# Altium footprint library МЦТР.00010572.00.0011.PcbLib: 28 footprints (part 1 of 2)
Each footprint in its own frame and in the unit in brackets; x right, y up, seen from the top. Pads: shape width x height; smd on the part's side, far side on the other; paste and mask are expansions set on the pad; w line width, h text height; cw(c..) or ccw(c..) is an arc to the next point about the centre after c.
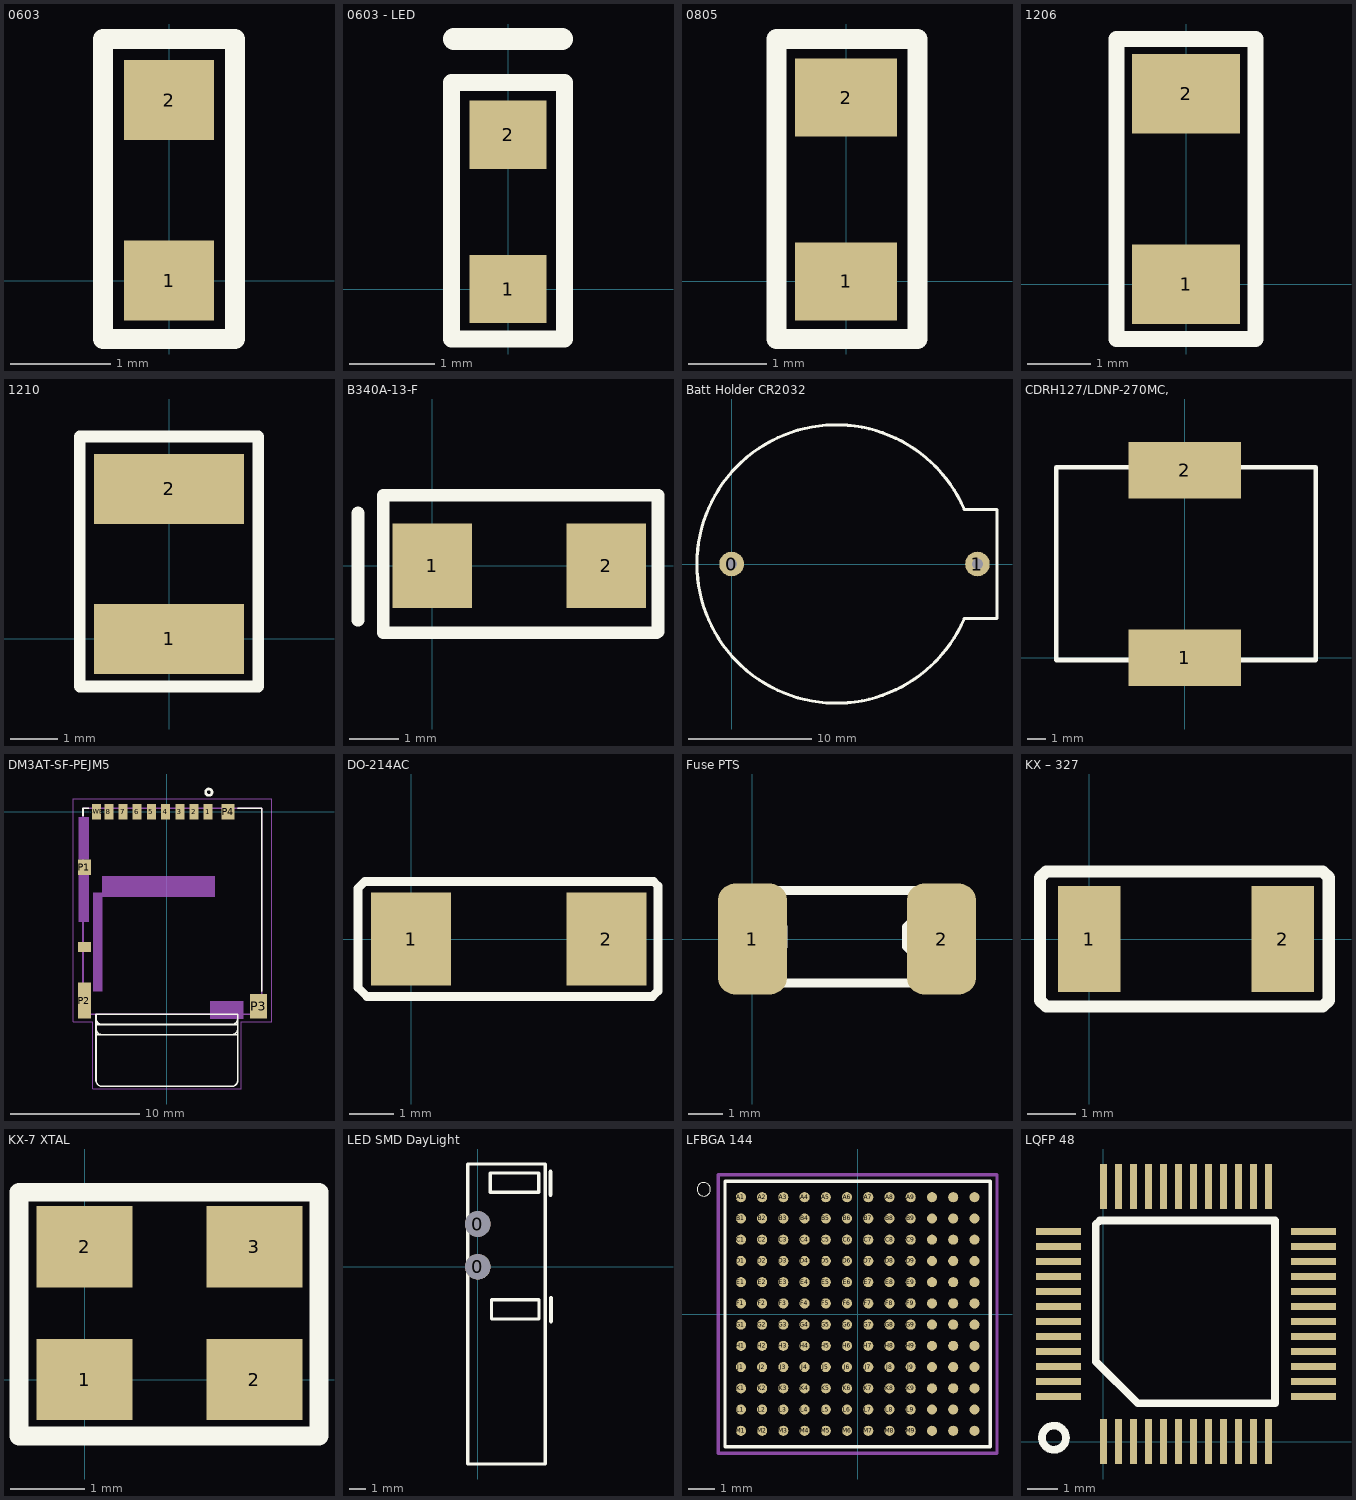
[diagram p0: the footprints below, top view; thin cyan lines are the x and y axes]

## 0603 [mm]
height 1
pads (2):
  rect 0.9x0.8 smd mask+0.102: 1(0,0) 2(0,1.803)
Top Overlay:
  lines w0.2: -0.66,-0.584 -0.66,2.413 0.66,2.413 0.66,-0.584 -0.66,-0.584
3D body "RT0603FRE0710KL.STEP": height 0.55, standoff 0, extent -0.4,0.089 0.4,1.689

## 0603 - LED [mm]
height 1
pads (2):
  rect 0.9x0.8 smd mask+0.102: 1(0,0) 2(0,1.803)
Top Overlay:
  lines w0.2: -0.66,-0.584 0.66,-0.584 0.66,2.413 -0.66,2.413 -0.66,-0.584
  lines w0.254: -0.635,2.921 0.635,2.921
3D body "598-8060-102F.STEP": height 0.7, standoff 0, extent -0.4,0.089 0.4,1.689

## 0805 [mm]
height 1
pads (2):
  rect 1.3x1 smd: 1(0,0) 2(0,2.35)
Top Overlay:
  lines w0.254: -0.889,-0.737 -0.889,3.099 0.914,3.099 0.914,-0.737 -0.889,-0.737
3D body "BLM21PG220SN1D.STEP": height 1.05, standoff 0, extent -0.625,0.143 0.625,2.143

## 1206 [mm]
height 2
pads (2):
  rect 1.7x1.25 smd: 1(0,0) 2(0,3)
Top Overlay:
  lines w0.254: -1.092,-0.864 1.092,-0.864 1.092,3.861 -1.092,3.861 -1.092,-0.864
3D body "GRM31CR61C226ME15L.STEP": height 1.8, standoff 0, extent -0.673,-0.076 0.927,3.124

## 1210 [mm]
height 2
pads (2):
  rect 3.2x1.5 smd: 1(0,0) 2(0,3.2)
Top Overlay:
  lines w0.254: -1.905,-1.016 1.905,-1.016 1.905,4.318 -1.905,4.318 -1.905,-1.016
3D body "0ZCH0050FF2G.STEP": height 1.2, standoff 0, extent -1.288,-0.083 1.287,3.132

## B340A-13-F [mm]
height 2
pads (2):
  rect 1.6x1.7 smd: 1(0,0) 2(3.5,0)
Top Overlay:
  lines w0.254: -1.499,-1.092 -1.499,1.067 ; 4.521,-1.346 -0.991,-1.346 -0.991,1.422 4.547,1.422 4.547,-1.327
3D body "B360A-13-F.STEP": height 2.62, standoff 0, extent -0.792,-1.28 4.348,1.28

## Batt Holder CR2032 [mm]
height 5
pads (2):
  round 2 hole 0.9: 0(0,0) 1(20,0)
Top Overlay:
  lines w0.254: 18.923,-4.445 cw(c8.509,0) 18.923,4.445 21.59,4.445 21.59,-4.445 18.923,-4.445
3D body "CH224-2032LF.step": height 8.7, standoff -3.7, extent -2.033,-10.921 22.267,11.175

## CDRH127/LDNP-270MC, [mm]
pads (2):
  rect 6x3 smd: 1(0,0) 2(0,10)
Top Overlay:
  lines w0.254: -6.858,-0.127 -6.858,10.16 6.985,10.16 6.985,-0.127 -6.858,-0.127
3D body "CDRH127LDNP220MC.STEP": height 8, standoff 0, extent -5.873,-0.793 6.127,11.207

## DM3AT-SF-PEJM5 [mm]
height 2
pads (14):
  rect 0.7x1.2 smd: 1(3.2,0) 2(2.1,0) 3(1,0) 4(-0.1,0) 5(-1.2,0) 6(-2.3,0) 7(-3.4,0) 8(-4.5,0) SWB(-5.45,0)
  rect 1x1.2 smd: P1(-6.4,-4.3) P4(4.75,0)
  rect 1x2.8 smd: P2(-6.4,-14.65)
  rect 1.3x1.9 smd: P3(7.1,-15.1)
  rect 1x0.8 smd: SWA(-6.4,-10.5)
Top Overlay:
  circle w0.2: c3.25,1.5 r0.25
  lines w0.127: -6.5,-0.3 -6.5,0.25 -6.05,0.25 ; 5.5,0.25 7.35,0.25 7.35,-13.9 ; -5.5,-17.3 -5.5,-20.8 ccw(c-5,-20.8) -5,-21.3 5,-21.3 ccw(c5,-20.8) 5.5,-20.8 5.5,-17.3 ; -5.5,-17.3 -5.5,-16.8 ; -5.5,-17.3 -5,-17.3 ; -5.5,-16.8 ccw(c-5,-16.8) -5,-17.3 ; -5.5,-16.8 -5.5,-16.5 ; -5.5,-16.5 -5.5,-16 ; -5.5,-16.5 -5,-16.5 ; -5.5,-16 ccw(c-5,-16) -5,-16.5 ; -5.5,-16 -5.5,-15.7 5.5,-15.7 5.5,-16 ; -5,-17.3 5,-17.3 ; -5,-16.5 5,-16.5 ; 5,-17.3 ccw(c5,-16.8) 5.5,-16.8 ; 5,-17.3 5.5,-17.3 ; 5,-16.5 ccw(c5,-16) 5.5,-16 ; 5,-16.5 5.5,-16.5 ; 5.5,-17.3 5.5,-16.8 ; 5.5,-16.8 5.5,-16.5 ; 5.5,-16.5 5.5,-16
Mechanical 1:
  region: 3.355,-14.7 5.9,-14.7 5.9,-16.072 3.355,-16.072
  region: -5.008,-5 3.7,-5 3.7,-6.611 -5.008,-6.611
  region: -5.715,-6.3 -5,-6.3 -5,-13.937 -5.715,-13.937
  region: -6.817,-4.9 -6.05,-4.9 -6.05,-8.521 -6.817,-8.521
  region: -6.825,-0.45 -6.05,-0.45 -6.05,-3.714 -6.825,-3.714
  lines w0.127: -6.5,-15.7 -6.5,0.25 7.35,0.25 7.35,-15.7 -6.5,-15.7
  text "PCB Edge" at -4.76,-15.783 h1.88
Mechanical 4:
  lines w0.05: -7.25,-16.3 -7.25,1 8.125,1 8.125,-16.3 5.75,-16.3 5.75,-21.5 -5.75,-21.5 -5.75,-16.3 -7.25,-16.3
3D body "DM3A.STEP": height 1.68, standoff 0, extent -6.484,-15.949 7.366,0.201

## DO-214AC [mm]
pads (2):
  rect 1.8x2.1 smd: 1(0,0) 2(4.4,0)
Top Overlay:
  lines w0.2: -1.194,-1.092 -0.991,-1.295 5.436,-1.295 5.563,-1.168 5.563,1.194 5.461,1.295 -1.041,1.295 -1.194,1.143 -1.194,-1.092
3D body "SMAJ5.0CA.STEP": height 2.4, standoff 0, extent -0.446,-1.303 4.764,1.303

## Fuse PTS [mm]
pads (2):
  rrect50% 2x3.2 smd: 1(0,0) 2(5.45,0)
Top Overlay:
  lines w0.254: 0.508,-1.27 0.508,-0.603 0.889,-0.222 0.889,0.349 0.508,0.73 0.508,1.397 4.826,1.397 4.826,0.73 4.445,0.349 4.445,-0.222 4.826,-0.603 4.826,-1.27 0.508,-1.27
3D body "MF-MSMF030-2.STEP": height 0.85, standoff 0, extent 0.392,-1.62 4.942,1.62

## KX – 327 [mm]
height 2
pads (2):
  rect 1.3x2.2 smd: 1(0,0) 2(4,0)
Top Overlay:
  lines w0.254: -1.016,-1.27 -1.016,1.27 -0.889,1.397 4.826,1.397 4.953,1.27 4.953,-1.27 4.826,-1.397 4.572,-1.397 -0.889,-1.397 -1.016,-1.27
3D body "RV-3032-C7-32.768KHZ-2.5PPM-TA-QC.STEP": height 0.8, standoff 0, extent 0.432,-0.75 3.632,0.75

## KX-7 XTAL [mm]
height 1
pads (4):
  rect 1.3x1.1 smd: 1(0,0) 2(0,1.8) 2(2.3,0) 3(2.3,1.8)
Top Overlay:
  lines w0.254: -0.889,-0.762 3.175,-0.762 3.175,2.54 -0.889,2.54 -0.889,-0.762
3D body "KX-7_3DFile(STEP).stp": height 0.8, standoff 0, extent -0.457,-0.361 2.743,2.139

## LED SMD DayLight [mm]
pads (2):
  round 1.52 hole 1.52 paste+0 mask+0: 0(0,0) 0(0,2.54)
Top Overlay:
  lines w0.2: -0.6,1.905 -0.6,6.1 4,6.1 4,-11.7 -0.6,-11.7 -0.6,2.54 ; 0.737,4.42 0.737,5.563 3.607,5.563 3.607,4.42 0.737,4.42 ; 0.813,-3.099 0.813,-1.956 3.632,-1.956 3.632,-3.099 0.813,-3.099
  lines w0.254: 4.318,4.267 4.318,5.639 ; 4.343,-3.226 4.343,-1.854

## LFBGA 144 [mm]
height 1
pads (144):
  round 0.38 smd mask-0.05: A1(-4.4,4.4) A2(-3.6,4.4) A3(-2.8,4.4) A4(-2,4.4) A5(-1.2,4.4) A6(-0.4,4.4) A7(0.4,4.4) A8(1.2,4.4) A9(2,4.4) A10(2.8,4.4) A11(3.6,4.4) A12(4.4,4.4) B1(-4.4,3.6) B2(-3.6,3.6) B3(-2.8,3.6) B4(-2,3.6) B5(-1.2,3.6) B6(-0.4,3.6) B7(0.4,3.6) B8(1.2,3.6) B9(2,3.6) B10(2.8,3.6) B11(3.6,3.6) B12(4.4,3.6) C1(-4.4,2.8) C2(-3.6,2.8) C3(-2.8,2.8) C4(-2,2.8) C5(-1.2,2.8) C6(-0.4,2.8) C7(0.4,2.8) C8(1.2,2.8) C9(2,2.8) C10(2.8,2.8) C11(3.6,2.8) C12(4.4,2.8) D1(-4.4,2) D2(-3.6,2) D3(-2.8,2) D4(-2,2) D5(-1.2,2) D6(-0.4,2) D7(0.4,2) D8(1.2,2) D9(2,2) D10(2.8,2) D11(3.6,2) D12(4.4,2) E1(-4.4,1.2) E2(-3.6,1.2) E3(-2.8,1.2) E4(-2,1.2) E5(-1.2,1.2) E6(-0.4,1.2) E7(0.4,1.2) E8(1.2,1.2) E9(2,1.2) E10(2.8,1.2) E11(3.6,1.2) E12(4.4,1.2) F1(-4.4,0.4) F2(-3.6,0.4) F3(-2.8,0.4) F4(-2,0.4) F5(-1.2,0.4) F6(-0.4,0.4) F7(0.4,0.4) F8(1.2,0.4) F9(2,0.4) F10(2.8,0.4) F11(3.6,0.4) F12(4.4,0.4) G1(-4.4,-0.4) G2(-3.6,-0.4) G3(-2.8,-0.4) G4(-2,-0.4) G5(-1.2,-0.4) G6(-0.4,-0.4) G7(0.4,-0.4) G8(1.2,-0.4) G9(2,-0.4) G10(2.8,-0.4) G11(3.6,-0.4) G12(4.4,-0.4) H1(-4.4,-1.2) H2(-3.6,-1.2) H3(-2.8,-1.2) H4(-2,-1.2) H5(-1.2,-1.2) H6(-0.4,-1.2) H7(0.4,-1.2) H8(1.2,-1.2) H9(2,-1.2) H10(2.8,-1.2) H11(3.6,-1.2) H12(4.4,-1.2) J1(-4.4,-2) J2(-3.6,-2) J3(-2.8,-2) J4(-2,-2) J5(-1.2,-2) J6(-0.4,-2) J7(0.4,-2) J8(1.2,-2) J9(2,-2) J10(2.8,-2) J11(3.6,-2) J12(4.4,-2) K1(-4.4,-2.8) K2(-3.6,-2.8) K3(-2.8,-2.8) K4(-2,-2.8) K5(-1.2,-2.8) K6(-0.4,-2.8) K7(0.4,-2.8) K8(1.2,-2.8) K9(2,-2.8) K10(2.8,-2.8) K11(3.6,-2.8) K12(4.4,-2.8) L1(-4.4,-3.6) L2(-3.6,-3.6) L3(-2.8,-3.6) L4(-2,-3.6) L5(-1.2,-3.6) L6(-0.4,-3.6) L7(0.4,-3.6) L8(1.2,-3.6) L9(2,-3.6) L10(2.8,-3.6) L11(3.6,-3.6) L12(4.4,-3.6) M1(-4.4,-4.4) M2(-3.6,-4.4) M3(-2.8,-4.4) M4(-2,-4.4) M5(-1.2,-4.4) M6(-0.4,-4.4) M7(0.4,-4.4) M8(1.2,-4.4) M9(2,-4.4) M10(2.8,-4.4) M11(3.6,-4.4) M12(4.4,-4.4)
Top Overlay:
  circle w0: c-5.8,4.7 r0.254
  lines w0.127: -5,-5 5,-5 5,5 -5,5 -5,-5
Mechanical 15:
  lines w0.127: -5.25,-5.25 5.25,-5.25 5.25,5.25 -5.25,5.25 -5.25,-5.25
3D body "ATSAM3X8EA-CU.STEP": height 1.4, standoff 0, extent -5,-5 5,5

## LQFP 48 [mm]
height 1
pads (48):
  rect 0.24x1.5 smd: 1(0,0) 2(0.5,0) 3(1,0) 4(1.5,0) 5(2,0) 6(2.5,0) 7(3,0) 8(3.5,0) 9(4,0) 10(4.5,0) 11(5,0) 12(5.5,0) 25(5.5,8.5) 26(5,8.5) 27(4.5,8.5) 28(4,8.5) 29(3.5,8.5) 30(3,8.5) 31(2.5,8.5) 32(2,8.5) 33(1.5,8.5) 34(1,8.5) 35(0.5,8.5) 36(0,8.5)
  rect 1.5x0.24 smd: 13(7,1.5) 14(7,2) 15(7,2.5) 16(7,3) 17(7,3.5) 18(7,4) 19(7,4.5) 20(7,5) 21(7,5.5) 22(7,6) 23(7,6.5) 24(7,7) 37(-1.5,7) 38(-1.5,6.5) 39(-1.5,6) 40(-1.5,5.5) 41(-1.5,5) 42(-1.5,4.5) 43(-1.5,4) 44(-1.5,3.5) 45(-1.5,3) 46(-1.5,2.5) 47(-1.5,2) 48(-1.5,1.5)
Top Overlay:
  circle w0.254: c-1.651,0.127 r0.402
  lines w0.254: -0.254,2.667 1.143,1.27 5.715,1.27 5.715,7.366 -0.127,7.366 -0.254,7.239 -0.254,2.667
3D body "W5500--3DModel-STEP-56544.STEP": height 1.6, standoff 0, extent -1.706,-0.182 7.294,8.818